# Altium footprint library Connector_PinSocket_2.00mm.PcbLib: 278 footprints (part 18 of 18)
Each footprint in its own frame and in the unit in brackets; x right, y up, seen from the top. Pads: shape width x height; smd on the part's side, far side on the other; paste and mask are expansions set on the pad; w line width, h text height; cw(c..) or ccw(c..) is an arc to the next point about the centre after c.
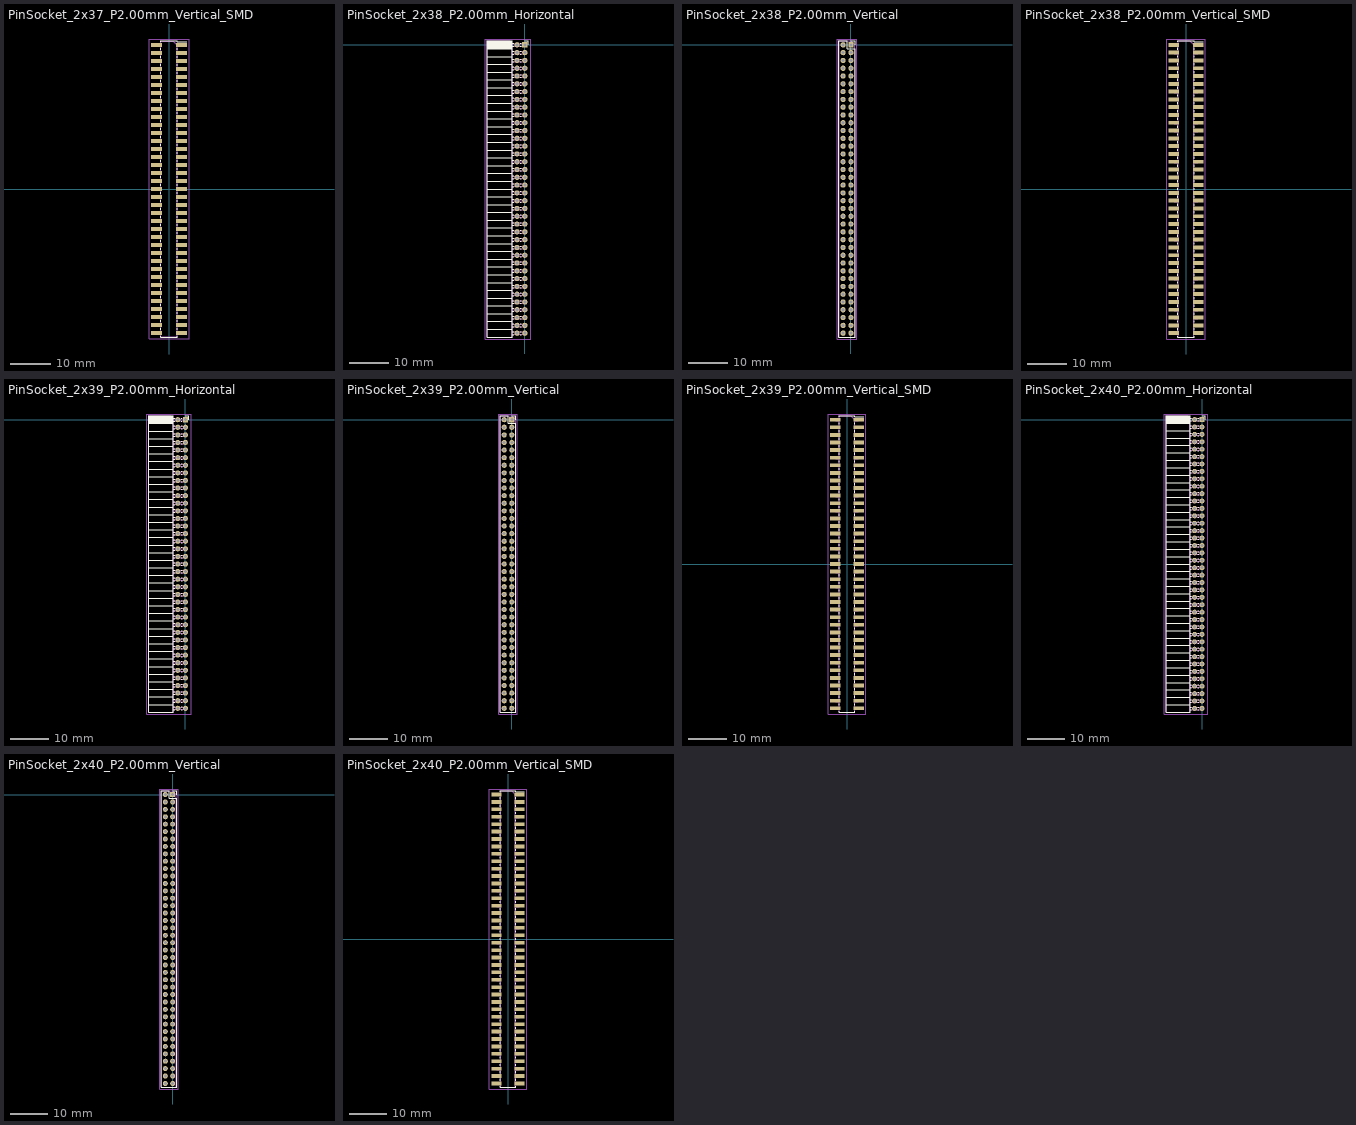
[diagram p17: the footprints below, top view; thin cyan lines are the x and y axes]

## PinSocket_2x37_P2.00mm_Vertical_SMD [mm]
pads (74):
  rect 2.75x1 smd: 1(3.125,36) 2(-3.125,36) 3(3.125,34) 4(-3.125,34) 5(3.125,32) 6(-3.125,32) 7(3.125,30) 8(-3.125,30) 9(3.125,28) 10(-3.125,28) 11(3.125,26) 12(-3.125,26) 13(3.125,24) 14(-3.125,24) 15(3.125,22) 16(-3.125,22) 17(3.125,20) 18(-3.125,20) 19(3.125,18) 20(-3.125,18) 21(3.125,16) 22(-3.125,16) 23(3.125,14) 24(-3.125,14) 25(3.125,12) 26(-3.125,12) 27(3.125,10) 28(-3.125,10) 29(3.125,8) 30(-3.125,8) 31(3.125,6) 32(-3.125,6) 33(3.125,4) 34(-3.125,4) 35(3.125,2) 36(-3.125,2) 37(3.125,0) 38(-3.125,0) 39(3.125,-2) 40(-3.125,-2) 41(3.125,-4) 42(-3.125,-4) 43(3.125,-6) 44(-3.125,-6) 45(3.125,-8) 46(-3.125,-8) 47(3.125,-10) 48(-3.125,-10) 49(3.125,-12) 50(-3.125,-12) 51(3.125,-14) 52(-3.125,-14) 53(3.125,-16) 54(-3.125,-16) 55(3.125,-18) 56(-3.125,-18) 57(3.125,-20) 58(-3.125,-20) 59(3.125,-22) 60(-3.125,-22) 61(3.125,-24) 62(-3.125,-24) 63(3.125,-26) 64(-3.125,-26) 65(3.125,-28) 66(-3.125,-28) 67(3.125,-30) 68(-3.125,-30) 69(3.125,-32) 70(-3.125,-32) 71(3.125,-34) 72(-3.125,-34) 73(3.125,-36) 74(-3.125,-36)
F.SilkS:
  lines w0.254: -2.06,-36.76 -2.06,-37.06 2.06,-37.06 2.06,-36.76 ; -2.06,-35.24 -2.06,-34.76 ; -2.06,-33.24 -2.06,-32.76 ; -2.06,-31.24 -2.06,-30.76 ; -2.06,-29.24 -2.06,-28.76 ; -2.06,-27.24 -2.06,-26.76 ; -2.06,-25.24 -2.06,-24.76 ; -2.06,-23.24 -2.06,-22.76 ; -2.06,-21.24 -2.06,-20.76 ; -2.06,-19.24 -2.06,-18.76 ; -2.06,-17.24 -2.06,-16.76 ; -2.06,-15.24 -2.06,-14.76 ; -2.06,-13.24 -2.06,-12.76 ; -2.06,-11.24 -2.06,-10.76 ; -2.06,-9.24 -2.06,-8.76 ; -2.06,-7.24 -2.06,-6.76 ; -2.06,-5.24 -2.06,-4.76 ; -2.06,-3.24 -2.06,-2.76 ; -2.06,-1.24 -2.06,-0.76 ; -2.06,0.76 -2.06,1.24 ; -2.06,2.76 -2.06,3.24 ; -2.06,4.76 -2.06,5.24 ; -2.06,6.76 -2.06,7.24 ; -2.06,8.76 -2.06,9.24 ; -2.06,10.76 -2.06,11.24 ; -2.06,12.76 -2.06,13.24 ; -2.06,14.76 -2.06,15.24 ; -2.06,16.76 -2.06,17.24 ; -2.06,18.76 -2.06,19.24 ; -2.06,20.76 -2.06,21.24 ; -2.06,22.76 -2.06,23.24 ; -2.06,24.76 -2.06,25.24 ; -2.06,26.76 -2.06,27.24 ; -2.06,28.76 -2.06,29.24 ; -2.06,30.76 -2.06,31.24 ; -2.06,32.76 -2.06,33.24 ; -2.06,34.76 -2.06,35.24 ; -2.06,36.76 -2.06,37.06 2.06,37.06 2.06,36.76 4.44,36.76 ; 2.06,-35.24 2.06,-34.76 ; 2.06,-33.24 2.06,-32.76 ; 2.06,-31.24 2.06,-30.76 ; 2.06,-29.24 2.06,-28.76 ; 2.06,-27.24 2.06,-26.76 ; 2.06,-25.24 2.06,-24.76 ; 2.06,-23.24 2.06,-22.76 ; 2.06,-21.24 2.06,-20.76 ; 2.06,-19.24 2.06,-18.76 ; 2.06,-17.24 2.06,-16.76 ; 2.06,-15.24 2.06,-14.76 ; 2.06,-13.24 2.06,-12.76 ; 2.06,-11.24 2.06,-10.76 ; 2.06,-9.24 2.06,-8.76 ; 2.06,-7.24 2.06,-6.76 ; 2.06,-5.24 2.06,-4.76 ; 2.06,-3.24 2.06,-2.76 ; 2.06,-1.24 2.06,-0.76 ; 2.06,0.76 2.06,1.24 ; 2.06,2.76 2.06,3.24 ; 2.06,4.76 2.06,5.24 ; 2.06,6.76 2.06,7.24 ; 2.06,8.76 2.06,9.24 ; 2.06,10.76 2.06,11.24 ; 2.06,12.76 2.06,13.24 ; 2.06,14.76 2.06,15.24 ; 2.06,16.76 2.06,17.24 ; 2.06,18.76 2.06,19.24 ; 2.06,20.76 2.06,21.24 ; 2.06,22.76 2.06,23.24 ; 2.06,24.76 2.06,25.24 ; 2.06,26.76 2.06,27.24 ; 2.06,28.76 2.06,29.24 ; 2.06,30.76 2.06,31.24 ; 2.06,32.76 2.06,33.24 ; 2.06,34.76 2.06,35.24
Top Assembly:
  drawing of 227 lines, arcs and shapes, not listed
  text "'.Designator'" at 0.84,-4.047 h1
Top Courtyard:
  lines w0.254: -5,-37.5 5,-37.5 5,37.5 -5,37.5 -5,-37.5
Top Designator:
  text ".Designator" at -7.618,-0.508 h1.52

## PinSocket_2x38_P2.00mm_Horizontal [mm]
pads (76):
  rect 1.35x1.35 hole 0.8: 1(0,0)
  round 1.35 hole 0.8: 2(-2,0) 3(0,-2) 4(-2,-2) 5(0,-4) 6(-2,-4) 7(0,-6) 8(-2,-6) 9(0,-8) 10(-2,-8) 11(0,-10) 12(-2,-10) 13(0,-12) 14(-2,-12) 15(0,-14) 16(-2,-14) 17(0,-16) 18(-2,-16) 19(0,-18) 20(-2,-18) 21(0,-20) 22(-2,-20) 23(0,-22) 24(-2,-22) 25(0,-24) 26(-2,-24) 27(0,-26) 28(-2,-26) 29(0,-28) 30(-2,-28) 31(0,-30) 32(-2,-30) 33(0,-32) 34(-2,-32) 35(0,-34) 36(-2,-34) 37(0,-36) 38(-2,-36) 39(0,-38) 40(-2,-38) 41(0,-40) 42(-2,-40) 43(0,-42) 44(-2,-42) 45(0,-44) 46(-2,-44) 47(0,-46) 48(-2,-46) 49(0,-48) 50(-2,-48) 51(0,-50) 52(-2,-50) 53(0,-52) 54(-2,-52) 55(0,-54) 56(-2,-54) 57(0,-56) 58(-2,-56) 59(0,-58) 60(-2,-58) 61(0,-60) 62(-2,-60) 63(0,-62) 64(-2,-62) 65(0,-64) 66(-2,-64) 67(0,-66) 68(-2,-66) 69(0,-68) 70(-2,-68) 71(0,-70) 72(-2,-70) 73(0,-72) 74(-2,-72) 75(0,-74) 76(-2,-74)
F.SilkS:
  drawing of 212 lines, arcs and shapes, not listed
Top Assembly:
  lines w0.254: -3.27,-74.3 0,-74.3 0,-73.7 -3.27,-73.7 ; -3.27,-72.3 0,-72.3 0,-71.7 -3.27,-71.7 ; -3.27,-70.3 0,-70.3 0,-69.7 -3.27,-69.7 ; -3.27,-68.3 0,-68.3 0,-67.7 -3.27,-67.7 ; -3.27,-66.3 0,-66.3 0,-65.7 -3.27,-65.7 ; -3.27,-64.3 0,-64.3 0,-63.7 -3.27,-63.7 ; -3.27,-62.3 0,-62.3 0,-61.7 -3.27,-61.7 ; -3.27,-60.3 0,-60.3 0,-59.7 -3.27,-59.7 ; -3.27,-58.3 0,-58.3 0,-57.7 -3.27,-57.7 ; -3.27,-56.3 0,-56.3 0,-55.7 -3.27,-55.7 ; -3.27,-54.3 0,-54.3 0,-53.7 -3.27,-53.7 ; -3.27,-52.3 0,-52.3 0,-51.7 -3.27,-51.7 ; -3.27,-50.3 0,-50.3 0,-49.7 -3.27,-49.7 ; -3.27,-48.3 0,-48.3 0,-47.7 -3.27,-47.7 ; -3.27,-46.3 0,-46.3 0,-45.7 -3.27,-45.7 ; -3.27,-44.3 0,-44.3 0,-43.7 -3.27,-43.7 ; -3.27,-42.3 0,-42.3 0,-41.7 -3.27,-41.7 ; -3.27,-40.3 0,-40.3 0,-39.7 -3.27,-39.7 ; -3.27,-38.3 0,-38.3 0,-37.7 -3.27,-37.7 ; -3.27,-36.3 0,-36.3 0,-35.7 -3.27,-35.7 ; -3.27,-34.3 0,-34.3 0,-33.7 -3.27,-33.7 ; -3.27,-32.3 0,-32.3 0,-31.7 -3.27,-31.7 ; -3.27,-30.3 0,-30.3 0,-29.7 -3.27,-29.7 ; -3.27,-28.3 0,-28.3 0,-27.7 -3.27,-27.7 ; -3.27,-26.3 0,-26.3 0,-25.7 -3.27,-25.7 ; -3.27,-24.3 0,-24.3 0,-23.7 -3.27,-23.7 ; -3.27,-22.3 0,-22.3 0,-21.7 -3.27,-21.7 ; -3.27,-20.3 0,-20.3 0,-19.7 -3.27,-19.7 ; -3.27,-18.3 0,-18.3 0,-17.7 -3.27,-17.7 ; -3.27,-16.3 0,-16.3 0,-15.7 -3.27,-15.7 ; -3.27,-14.3 0,-14.3 0,-13.7 -3.27,-13.7 ; -3.27,-12.3 0,-12.3 0,-11.7 -3.27,-11.7 ; -3.27,-10.3 0,-10.3 0,-9.7 -3.27,-9.7 ; -3.27,-8.3 0,-8.3 0,-7.7 -3.27,-7.7 ; -3.27,-6.3 0,-6.3 0,-5.7 -3.27,-5.7 ; -3.27,-4.3 0,-4.3 0,-3.7 -3.27,-3.7 ; -3.27,-2.3 0,-2.3 0,-1.7 -3.27,-1.7 ; -3.27,-0.3 0,-0.3 0,0.3 -3.27,0.3 ; -3.27,0.3 -3.27,-75 -9.62,-75 -9.62,1 -3.97,1 -3.27,0.3
  text "'.Designator'" at -5.605,-41.047 h1
Top Courtyard:
  lines w0.254: -10.15,-75.5 1.5,-75.5 1.5,1.5 -10.15,1.5 -10.15,-75.5
Top Designator:
  text ".Designator" at -11.943,-37.508 h1.52

## PinSocket_2x38_P2.00mm_Vertical [mm]
pads (76):
  rect 1.35x1.35 hole 0.8: 1(0,0)
  round 1.35 hole 0.8: 2(-2,0) 3(0,-2) 4(-2,-2) 5(0,-4) 6(-2,-4) 7(0,-6) 8(-2,-6) 9(0,-8) 10(-2,-8) 11(0,-10) 12(-2,-10) 13(0,-12) 14(-2,-12) 15(0,-14) 16(-2,-14) 17(0,-16) 18(-2,-16) 19(0,-18) 20(-2,-18) 21(0,-20) 22(-2,-20) 23(0,-22) 24(-2,-22) 25(0,-24) 26(-2,-24) 27(0,-26) 28(-2,-26) 29(0,-28) 30(-2,-28) 31(0,-30) 32(-2,-30) 33(0,-32) 34(-2,-32) 35(0,-34) 36(-2,-34) 37(0,-36) 38(-2,-36) 39(0,-38) 40(-2,-38) 41(0,-40) 42(-2,-40) 43(0,-42) 44(-2,-42) 45(0,-44) 46(-2,-44) 47(0,-46) 48(-2,-46) 49(0,-48) 50(-2,-48) 51(0,-50) 52(-2,-50) 53(0,-52) 54(-2,-52) 55(0,-54) 56(-2,-54) 57(0,-56) 58(-2,-56) 59(0,-58) 60(-2,-58) 61(0,-60) 62(-2,-60) 63(0,-62) 64(-2,-62) 65(0,-64) 66(-2,-64) 67(0,-66) 68(-2,-66) 69(0,-68) 70(-2,-68) 71(0,-70) 72(-2,-70) 73(0,-72) 74(-2,-72) 75(0,-74) 76(-2,-74)
F.SilkS:
  lines w0.254: 0,1.06 1.06,1.06 1.06,0 ; -3.06,-75.06 1.06,-75.06 1.06,-1 -1,-1 -1,1.06 -3.06,1.06 -3.06,-75.06
Top Assembly:
  lines w0.254: -3,-75 1,-75 1,0 0,1 -3,1 -3,-75
  text "'.Designator'" at -0.16,-41.047 h1
Top Courtyard:
  lines w0.254: -3.5,-75.5 1.5,-75.5 1.5,1.5 -3.5,1.5 -3.5,-75.5
Top Designator:
  text ".Designator" at -8.618,-37.508 h1.52

## PinSocket_2x38_P2.00mm_Vertical_SMD [mm]
pads (76):
  rect 2.75x1 smd: 1(3.125,37) 2(-3.125,37) 3(3.125,35) 4(-3.125,35) 5(3.125,33) 6(-3.125,33) 7(3.125,31) 8(-3.125,31) 9(3.125,29) 10(-3.125,29) 11(3.125,27) 12(-3.125,27) 13(3.125,25) 14(-3.125,25) 15(3.125,23) 16(-3.125,23) 17(3.125,21) 18(-3.125,21) 19(3.125,19) 20(-3.125,19) 21(3.125,17) 22(-3.125,17) 23(3.125,15) 24(-3.125,15) 25(3.125,13) 26(-3.125,13) 27(3.125,11) 28(-3.125,11) 29(3.125,9) 30(-3.125,9) 31(3.125,7) 32(-3.125,7) 33(3.125,5) 34(-3.125,5) 35(3.125,3) 36(-3.125,3) 37(3.125,1) 38(-3.125,1) 39(3.125,-1) 40(-3.125,-1) 41(3.125,-3) 42(-3.125,-3) 43(3.125,-5) 44(-3.125,-5) 45(3.125,-7) 46(-3.125,-7) 47(3.125,-9) 48(-3.125,-9) 49(3.125,-11) 50(-3.125,-11) 51(3.125,-13) 52(-3.125,-13) 53(3.125,-15) 54(-3.125,-15) 55(3.125,-17) 56(-3.125,-17) 57(3.125,-19) 58(-3.125,-19) 59(3.125,-21) 60(-3.125,-21) 61(3.125,-23) 62(-3.125,-23) 63(3.125,-25) 64(-3.125,-25) 65(3.125,-27) 66(-3.125,-27) 67(3.125,-29) 68(-3.125,-29) 69(3.125,-31) 70(-3.125,-31) 71(3.125,-33) 72(-3.125,-33) 73(3.125,-35) 74(-3.125,-35) 75(3.125,-37) 76(-3.125,-37)
F.SilkS:
  lines w0.254: -2.06,-37.76 -2.06,-38.06 2.06,-38.06 2.06,-37.76 ; -2.06,-36.24 -2.06,-35.76 ; -2.06,-34.24 -2.06,-33.76 ; -2.06,-32.24 -2.06,-31.76 ; -2.06,-30.24 -2.06,-29.76 ; -2.06,-28.24 -2.06,-27.76 ; -2.06,-26.24 -2.06,-25.76 ; -2.06,-24.24 -2.06,-23.76 ; -2.06,-22.24 -2.06,-21.76 ; -2.06,-20.24 -2.06,-19.76 ; -2.06,-18.24 -2.06,-17.76 ; -2.06,-16.24 -2.06,-15.76 ; -2.06,-14.24 -2.06,-13.76 ; -2.06,-12.24 -2.06,-11.76 ; -2.06,-10.24 -2.06,-9.76 ; -2.06,-8.24 -2.06,-7.76 ; -2.06,-6.24 -2.06,-5.76 ; -2.06,-4.24 -2.06,-3.76 ; -2.06,-2.24 -2.06,-1.76 ; -2.06,-0.24 -2.06,0.24 ; -2.06,1.76 -2.06,2.24 ; -2.06,3.76 -2.06,4.24 ; -2.06,5.76 -2.06,6.24 ; -2.06,7.76 -2.06,8.24 ; -2.06,9.76 -2.06,10.24 ; -2.06,11.76 -2.06,12.24 ; -2.06,13.76 -2.06,14.24 ; -2.06,15.76 -2.06,16.24 ; -2.06,17.76 -2.06,18.24 ; -2.06,19.76 -2.06,20.24 ; -2.06,21.76 -2.06,22.24 ; -2.06,23.76 -2.06,24.24 ; -2.06,25.76 -2.06,26.24 ; -2.06,27.76 -2.06,28.24 ; -2.06,29.76 -2.06,30.24 ; -2.06,31.76 -2.06,32.24 ; -2.06,33.76 -2.06,34.24 ; -2.06,35.76 -2.06,36.24 ; -2.06,37.76 -2.06,38.06 2.06,38.06 2.06,37.76 4.44,37.76 ; 2.06,-36.24 2.06,-35.76 ; 2.06,-34.24 2.06,-33.76 ; 2.06,-32.24 2.06,-31.76 ; 2.06,-30.24 2.06,-29.76 ; 2.06,-28.24 2.06,-27.76 ; 2.06,-26.24 2.06,-25.76 ; 2.06,-24.24 2.06,-23.76 ; 2.06,-22.24 2.06,-21.76 ; 2.06,-20.24 2.06,-19.76 ; 2.06,-18.24 2.06,-17.76 ; 2.06,-16.24 2.06,-15.76 ; 2.06,-14.24 2.06,-13.76 ; 2.06,-12.24 2.06,-11.76 ; 2.06,-10.24 2.06,-9.76 ; 2.06,-8.24 2.06,-7.76 ; 2.06,-6.24 2.06,-5.76 ; 2.06,-4.24 2.06,-3.76 ; 2.06,-2.24 2.06,-1.76 ; 2.06,-0.24 2.06,0.24 ; 2.06,1.76 2.06,2.24 ; 2.06,3.76 2.06,4.24 ; 2.06,5.76 2.06,6.24 ; 2.06,7.76 2.06,8.24 ; 2.06,9.76 2.06,10.24 ; 2.06,11.76 2.06,12.24 ; 2.06,13.76 2.06,14.24 ; 2.06,15.76 2.06,16.24 ; 2.06,17.76 2.06,18.24 ; 2.06,19.76 2.06,20.24 ; 2.06,21.76 2.06,22.24 ; 2.06,23.76 2.06,24.24 ; 2.06,25.76 2.06,26.24 ; 2.06,27.76 2.06,28.24 ; 2.06,29.76 2.06,30.24 ; 2.06,31.76 2.06,32.24 ; 2.06,33.76 2.06,34.24 ; 2.06,35.76 2.06,36.24
Top Assembly:
  drawing of 233 lines, arcs and shapes, not listed
  text "'.Designator'" at 0.84,-4.047 h1
Top Courtyard:
  lines w0.254: -5,-38.5 5,-38.5 5,38.5 -5,38.5 -5,-38.5
Top Designator:
  text ".Designator" at -7.618,-0.508 h1.52

## PinSocket_2x39_P2.00mm_Horizontal [mm]
pads (78):
  rect 1.35x1.35 hole 0.8: 1(0,0)
  round 1.35 hole 0.8: 2(-2,0) 3(0,-2) 4(-2,-2) 5(0,-4) 6(-2,-4) 7(0,-6) 8(-2,-6) 9(0,-8) 10(-2,-8) 11(0,-10) 12(-2,-10) 13(0,-12) 14(-2,-12) 15(0,-14) 16(-2,-14) 17(0,-16) 18(-2,-16) 19(0,-18) 20(-2,-18) 21(0,-20) 22(-2,-20) 23(0,-22) 24(-2,-22) 25(0,-24) 26(-2,-24) 27(0,-26) 28(-2,-26) 29(0,-28) 30(-2,-28) 31(0,-30) 32(-2,-30) 33(0,-32) 34(-2,-32) 35(0,-34) 36(-2,-34) 37(0,-36) 38(-2,-36) 39(0,-38) 40(-2,-38) 41(0,-40) 42(-2,-40) 43(0,-42) 44(-2,-42) 45(0,-44) 46(-2,-44) 47(0,-46) 48(-2,-46) 49(0,-48) 50(-2,-48) 51(0,-50) 52(-2,-50) 53(0,-52) 54(-2,-52) 55(0,-54) 56(-2,-54) 57(0,-56) 58(-2,-56) 59(0,-58) 60(-2,-58) 61(0,-60) 62(-2,-60) 63(0,-62) 64(-2,-62) 65(0,-64) 66(-2,-64) 67(0,-66) 68(-2,-66) 69(0,-68) 70(-2,-68) 71(0,-70) 72(-2,-70) 73(0,-72) 74(-2,-72) 75(0,-74) 76(-2,-74) 77(0,-76) 78(-2,-76)
F.SilkS:
  drawing of 217 lines, arcs and shapes, not listed
Top Assembly:
  lines w0.254: -3.27,-76.3 0,-76.3 0,-75.7 -3.27,-75.7 ; -3.27,-74.3 0,-74.3 0,-73.7 -3.27,-73.7 ; -3.27,-72.3 0,-72.3 0,-71.7 -3.27,-71.7 ; -3.27,-70.3 0,-70.3 0,-69.7 -3.27,-69.7 ; -3.27,-68.3 0,-68.3 0,-67.7 -3.27,-67.7 ; -3.27,-66.3 0,-66.3 0,-65.7 -3.27,-65.7 ; -3.27,-64.3 0,-64.3 0,-63.7 -3.27,-63.7 ; -3.27,-62.3 0,-62.3 0,-61.7 -3.27,-61.7 ; -3.27,-60.3 0,-60.3 0,-59.7 -3.27,-59.7 ; -3.27,-58.3 0,-58.3 0,-57.7 -3.27,-57.7 ; -3.27,-56.3 0,-56.3 0,-55.7 -3.27,-55.7 ; -3.27,-54.3 0,-54.3 0,-53.7 -3.27,-53.7 ; -3.27,-52.3 0,-52.3 0,-51.7 -3.27,-51.7 ; -3.27,-50.3 0,-50.3 0,-49.7 -3.27,-49.7 ; -3.27,-48.3 0,-48.3 0,-47.7 -3.27,-47.7 ; -3.27,-46.3 0,-46.3 0,-45.7 -3.27,-45.7 ; -3.27,-44.3 0,-44.3 0,-43.7 -3.27,-43.7 ; -3.27,-42.3 0,-42.3 0,-41.7 -3.27,-41.7 ; -3.27,-40.3 0,-40.3 0,-39.7 -3.27,-39.7 ; -3.27,-38.3 0,-38.3 0,-37.7 -3.27,-37.7 ; -3.27,-36.3 0,-36.3 0,-35.7 -3.27,-35.7 ; -3.27,-34.3 0,-34.3 0,-33.7 -3.27,-33.7 ; -3.27,-32.3 0,-32.3 0,-31.7 -3.27,-31.7 ; -3.27,-30.3 0,-30.3 0,-29.7 -3.27,-29.7 ; -3.27,-28.3 0,-28.3 0,-27.7 -3.27,-27.7 ; -3.27,-26.3 0,-26.3 0,-25.7 -3.27,-25.7 ; -3.27,-24.3 0,-24.3 0,-23.7 -3.27,-23.7 ; -3.27,-22.3 0,-22.3 0,-21.7 -3.27,-21.7 ; -3.27,-20.3 0,-20.3 0,-19.7 -3.27,-19.7 ; -3.27,-18.3 0,-18.3 0,-17.7 -3.27,-17.7 ; -3.27,-16.3 0,-16.3 0,-15.7 -3.27,-15.7 ; -3.27,-14.3 0,-14.3 0,-13.7 -3.27,-13.7 ; -3.27,-12.3 0,-12.3 0,-11.7 -3.27,-11.7 ; -3.27,-10.3 0,-10.3 0,-9.7 -3.27,-9.7 ; -3.27,-8.3 0,-8.3 0,-7.7 -3.27,-7.7 ; -3.27,-6.3 0,-6.3 0,-5.7 -3.27,-5.7 ; -3.27,-4.3 0,-4.3 0,-3.7 -3.27,-3.7 ; -3.27,-2.3 0,-2.3 0,-1.7 -3.27,-1.7 ; -3.27,-0.3 0,-0.3 0,0.3 -3.27,0.3 ; -3.27,0.3 -3.27,-77 -9.62,-77 -9.62,1 -3.97,1 -3.27,0.3
  text "'.Designator'" at -5.605,-42.047 h1
Top Courtyard:
  lines w0.254: -10.15,-77.5 1.5,-77.5 1.5,1.5 -10.15,1.5 -10.15,-77.5
Top Designator:
  text ".Designator" at -11.943,-38.508 h1.52

## PinSocket_2x39_P2.00mm_Vertical [mm]
pads (78):
  rect 1.35x1.35 hole 0.8: 1(0,0)
  round 1.35 hole 0.8: 2(-2,0) 3(0,-2) 4(-2,-2) 5(0,-4) 6(-2,-4) 7(0,-6) 8(-2,-6) 9(0,-8) 10(-2,-8) 11(0,-10) 12(-2,-10) 13(0,-12) 14(-2,-12) 15(0,-14) 16(-2,-14) 17(0,-16) 18(-2,-16) 19(0,-18) 20(-2,-18) 21(0,-20) 22(-2,-20) 23(0,-22) 24(-2,-22) 25(0,-24) 26(-2,-24) 27(0,-26) 28(-2,-26) 29(0,-28) 30(-2,-28) 31(0,-30) 32(-2,-30) 33(0,-32) 34(-2,-32) 35(0,-34) 36(-2,-34) 37(0,-36) 38(-2,-36) 39(0,-38) 40(-2,-38) 41(0,-40) 42(-2,-40) 43(0,-42) 44(-2,-42) 45(0,-44) 46(-2,-44) 47(0,-46) 48(-2,-46) 49(0,-48) 50(-2,-48) 51(0,-50) 52(-2,-50) 53(0,-52) 54(-2,-52) 55(0,-54) 56(-2,-54) 57(0,-56) 58(-2,-56) 59(0,-58) 60(-2,-58) 61(0,-60) 62(-2,-60) 63(0,-62) 64(-2,-62) 65(0,-64) 66(-2,-64) 67(0,-66) 68(-2,-66) 69(0,-68) 70(-2,-68) 71(0,-70) 72(-2,-70) 73(0,-72) 74(-2,-72) 75(0,-74) 76(-2,-74) 77(0,-76) 78(-2,-76)
F.SilkS:
  lines w0.254: 0,1.06 1.06,1.06 1.06,0 ; -3.06,-77.06 1.06,-77.06 1.06,-1 -1,-1 -1,1.06 -3.06,1.06 -3.06,-77.06
Top Assembly:
  lines w0.254: -3,-77 1,-77 1,0 0,1 -3,1 -3,-77
  text "'.Designator'" at -0.16,-42.047 h1
Top Courtyard:
  lines w0.254: -3.5,-77.5 1.5,-77.5 1.5,1.5 -3.5,1.5 -3.5,-77.5
Top Designator:
  text ".Designator" at -8.618,-38.508 h1.52

## PinSocket_2x39_P2.00mm_Vertical_SMD [mm]
pads (78):
  rect 2.75x1 smd: 1(3.125,38) 2(-3.125,38) 3(3.125,36) 4(-3.125,36) 5(3.125,34) 6(-3.125,34) 7(3.125,32) 8(-3.125,32) 9(3.125,30) 10(-3.125,30) 11(3.125,28) 12(-3.125,28) 13(3.125,26) 14(-3.125,26) 15(3.125,24) 16(-3.125,24) 17(3.125,22) 18(-3.125,22) 19(3.125,20) 20(-3.125,20) 21(3.125,18) 22(-3.125,18) 23(3.125,16) 24(-3.125,16) 25(3.125,14) 26(-3.125,14) 27(3.125,12) 28(-3.125,12) 29(3.125,10) 30(-3.125,10) 31(3.125,8) 32(-3.125,8) 33(3.125,6) 34(-3.125,6) 35(3.125,4) 36(-3.125,4) 37(3.125,2) 38(-3.125,2) 39(3.125,0) 40(-3.125,0) 41(3.125,-2) 42(-3.125,-2) 43(3.125,-4) 44(-3.125,-4) 45(3.125,-6) 46(-3.125,-6) 47(3.125,-8) 48(-3.125,-8) 49(3.125,-10) 50(-3.125,-10) 51(3.125,-12) 52(-3.125,-12) 53(3.125,-14) 54(-3.125,-14) 55(3.125,-16) 56(-3.125,-16) 57(3.125,-18) 58(-3.125,-18) 59(3.125,-20) 60(-3.125,-20) 61(3.125,-22) 62(-3.125,-22) 63(3.125,-24) 64(-3.125,-24) 65(3.125,-26) 66(-3.125,-26) 67(3.125,-28) 68(-3.125,-28) 69(3.125,-30) 70(-3.125,-30) 71(3.125,-32) 72(-3.125,-32) 73(3.125,-34) 74(-3.125,-34) 75(3.125,-36) 76(-3.125,-36) 77(3.125,-38) 78(-3.125,-38)
F.SilkS:
  lines w0.254: -2.06,-38.76 -2.06,-39.06 2.06,-39.06 2.06,-38.76 ; -2.06,-37.24 -2.06,-36.76 ; -2.06,-35.24 -2.06,-34.76 ; -2.06,-33.24 -2.06,-32.76 ; -2.06,-31.24 -2.06,-30.76 ; -2.06,-29.24 -2.06,-28.76 ; -2.06,-27.24 -2.06,-26.76 ; -2.06,-25.24 -2.06,-24.76 ; -2.06,-23.24 -2.06,-22.76 ; -2.06,-21.24 -2.06,-20.76 ; -2.06,-19.24 -2.06,-18.76 ; -2.06,-17.24 -2.06,-16.76 ; -2.06,-15.24 -2.06,-14.76 ; -2.06,-13.24 -2.06,-12.76 ; -2.06,-11.24 -2.06,-10.76 ; -2.06,-9.24 -2.06,-8.76 ; -2.06,-7.24 -2.06,-6.76 ; -2.06,-5.24 -2.06,-4.76 ; -2.06,-3.24 -2.06,-2.76 ; -2.06,-1.24 -2.06,-0.76 ; -2.06,0.76 -2.06,1.24 ; -2.06,2.76 -2.06,3.24 ; -2.06,4.76 -2.06,5.24 ; -2.06,6.76 -2.06,7.24 ; -2.06,8.76 -2.06,9.24 ; -2.06,10.76 -2.06,11.24 ; -2.06,12.76 -2.06,13.24 ; -2.06,14.76 -2.06,15.24 ; -2.06,16.76 -2.06,17.24 ; -2.06,18.76 -2.06,19.24 ; -2.06,20.76 -2.06,21.24 ; -2.06,22.76 -2.06,23.24 ; -2.06,24.76 -2.06,25.24 ; -2.06,26.76 -2.06,27.24 ; -2.06,28.76 -2.06,29.24 ; -2.06,30.76 -2.06,31.24 ; -2.06,32.76 -2.06,33.24 ; -2.06,34.76 -2.06,35.24 ; -2.06,36.76 -2.06,37.24 ; -2.06,38.76 -2.06,39.06 2.06,39.06 2.06,38.76 4.44,38.76 ; 2.06,-37.24 2.06,-36.76 ; 2.06,-35.24 2.06,-34.76 ; 2.06,-33.24 2.06,-32.76 ; 2.06,-31.24 2.06,-30.76 ; 2.06,-29.24 2.06,-28.76 ; 2.06,-27.24 2.06,-26.76 ; 2.06,-25.24 2.06,-24.76 ; 2.06,-23.24 2.06,-22.76 ; 2.06,-21.24 2.06,-20.76 ; 2.06,-19.24 2.06,-18.76 ; 2.06,-17.24 2.06,-16.76 ; 2.06,-15.24 2.06,-14.76 ; 2.06,-13.24 2.06,-12.76 ; 2.06,-11.24 2.06,-10.76 ; 2.06,-9.24 2.06,-8.76 ; 2.06,-7.24 2.06,-6.76 ; 2.06,-5.24 2.06,-4.76 ; 2.06,-3.24 2.06,-2.76 ; 2.06,-1.24 2.06,-0.76 ; 2.06,0.76 2.06,1.24 ; 2.06,2.76 2.06,3.24 ; 2.06,4.76 2.06,5.24 ; 2.06,6.76 2.06,7.24 ; 2.06,8.76 2.06,9.24 ; 2.06,10.76 2.06,11.24 ; 2.06,12.76 2.06,13.24 ; 2.06,14.76 2.06,15.24 ; 2.06,16.76 2.06,17.24 ; 2.06,18.76 2.06,19.24 ; 2.06,20.76 2.06,21.24 ; 2.06,22.76 2.06,23.24 ; 2.06,24.76 2.06,25.24 ; 2.06,26.76 2.06,27.24 ; 2.06,28.76 2.06,29.24 ; 2.06,30.76 2.06,31.24 ; 2.06,32.76 2.06,33.24 ; 2.06,34.76 2.06,35.24 ; 2.06,36.76 2.06,37.24
Top Assembly:
  drawing of 239 lines, arcs and shapes, not listed
  text "'.Designator'" at 0.84,-4.047 h1
Top Courtyard:
  lines w0.254: -5,-39.5 5,-39.5 5,39.5 -5,39.5 -5,-39.5
Top Designator:
  text ".Designator" at -7.618,-0.508 h1.52

## PinSocket_2x40_P2.00mm_Horizontal [mm]
pads (80):
  rect 1.35x1.35 hole 0.8: 1(0,0)
  round 1.35 hole 0.8: 2(-2,0) 3(0,-2) 4(-2,-2) 5(0,-4) 6(-2,-4) 7(0,-6) 8(-2,-6) 9(0,-8) 10(-2,-8) 11(0,-10) 12(-2,-10) 13(0,-12) 14(-2,-12) 15(0,-14) 16(-2,-14) 17(0,-16) 18(-2,-16) 19(0,-18) 20(-2,-18) 21(0,-20) 22(-2,-20) 23(0,-22) 24(-2,-22) 25(0,-24) 26(-2,-24) 27(0,-26) 28(-2,-26) 29(0,-28) 30(-2,-28) 31(0,-30) 32(-2,-30) 33(0,-32) 34(-2,-32) 35(0,-34) 36(-2,-34) 37(0,-36) 38(-2,-36) 39(0,-38) 40(-2,-38) 41(0,-40) 42(-2,-40) 43(0,-42) 44(-2,-42) 45(0,-44) 46(-2,-44) 47(0,-46) 48(-2,-46) 49(0,-48) 50(-2,-48) 51(0,-50) 52(-2,-50) 53(0,-52) 54(-2,-52) 55(0,-54) 56(-2,-54) 57(0,-56) 58(-2,-56) 59(0,-58) 60(-2,-58) 61(0,-60) 62(-2,-60) 63(0,-62) 64(-2,-62) 65(0,-64) 66(-2,-64) 67(0,-66) 68(-2,-66) 69(0,-68) 70(-2,-68) 71(0,-70) 72(-2,-70) 73(0,-72) 74(-2,-72) 75(0,-74) 76(-2,-74) 77(0,-76) 78(-2,-76) 79(0,-78) 80(-2,-78)
F.SilkS:
  drawing of 222 lines, arcs and shapes, not listed
Top Assembly:
  lines w0.254: -3.27,-78.3 0,-78.3 0,-77.7 -3.27,-77.7 ; -3.27,-76.3 0,-76.3 0,-75.7 -3.27,-75.7 ; -3.27,-74.3 0,-74.3 0,-73.7 -3.27,-73.7 ; -3.27,-72.3 0,-72.3 0,-71.7 -3.27,-71.7 ; -3.27,-70.3 0,-70.3 0,-69.7 -3.27,-69.7 ; -3.27,-68.3 0,-68.3 0,-67.7 -3.27,-67.7 ; -3.27,-66.3 0,-66.3 0,-65.7 -3.27,-65.7 ; -3.27,-64.3 0,-64.3 0,-63.7 -3.27,-63.7 ; -3.27,-62.3 0,-62.3 0,-61.7 -3.27,-61.7 ; -3.27,-60.3 0,-60.3 0,-59.7 -3.27,-59.7 ; -3.27,-58.3 0,-58.3 0,-57.7 -3.27,-57.7 ; -3.27,-56.3 0,-56.3 0,-55.7 -3.27,-55.7 ; -3.27,-54.3 0,-54.3 0,-53.7 -3.27,-53.7 ; -3.27,-52.3 0,-52.3 0,-51.7 -3.27,-51.7 ; -3.27,-50.3 0,-50.3 0,-49.7 -3.27,-49.7 ; -3.27,-48.3 0,-48.3 0,-47.7 -3.27,-47.7 ; -3.27,-46.3 0,-46.3 0,-45.7 -3.27,-45.7 ; -3.27,-44.3 0,-44.3 0,-43.7 -3.27,-43.7 ; -3.27,-42.3 0,-42.3 0,-41.7 -3.27,-41.7 ; -3.27,-40.3 0,-40.3 0,-39.7 -3.27,-39.7 ; -3.27,-38.3 0,-38.3 0,-37.7 -3.27,-37.7 ; -3.27,-36.3 0,-36.3 0,-35.7 -3.27,-35.7 ; -3.27,-34.3 0,-34.3 0,-33.7 -3.27,-33.7 ; -3.27,-32.3 0,-32.3 0,-31.7 -3.27,-31.7 ; -3.27,-30.3 0,-30.3 0,-29.7 -3.27,-29.7 ; -3.27,-28.3 0,-28.3 0,-27.7 -3.27,-27.7 ; -3.27,-26.3 0,-26.3 0,-25.7 -3.27,-25.7 ; -3.27,-24.3 0,-24.3 0,-23.7 -3.27,-23.7 ; -3.27,-22.3 0,-22.3 0,-21.7 -3.27,-21.7 ; -3.27,-20.3 0,-20.3 0,-19.7 -3.27,-19.7 ; -3.27,-18.3 0,-18.3 0,-17.7 -3.27,-17.7 ; -3.27,-16.3 0,-16.3 0,-15.7 -3.27,-15.7 ; -3.27,-14.3 0,-14.3 0,-13.7 -3.27,-13.7 ; -3.27,-12.3 0,-12.3 0,-11.7 -3.27,-11.7 ; -3.27,-10.3 0,-10.3 0,-9.7 -3.27,-9.7 ; -3.27,-8.3 0,-8.3 0,-7.7 -3.27,-7.7 ; -3.27,-6.3 0,-6.3 0,-5.7 -3.27,-5.7 ; -3.27,-4.3 0,-4.3 0,-3.7 -3.27,-3.7 ; -3.27,-2.3 0,-2.3 0,-1.7 -3.27,-1.7 ; -3.27,-0.3 0,-0.3 0,0.3 -3.27,0.3 ; -3.27,0.3 -3.27,-79 -9.62,-79 -9.62,1 -3.97,1 -3.27,0.3
  text "'.Designator'" at -5.605,-43.047 h1
Top Courtyard:
  lines w0.254: -10.15,-79.5 1.5,-79.5 1.5,1.5 -10.15,1.5 -10.15,-79.5
Top Designator:
  text ".Designator" at -11.943,-39.508 h1.52

## PinSocket_2x40_P2.00mm_Vertical [mm]
pads (80):
  rect 1.35x1.35 hole 0.8: 1(0,0)
  round 1.35 hole 0.8: 2(-2,0) 3(0,-2) 4(-2,-2) 5(0,-4) 6(-2,-4) 7(0,-6) 8(-2,-6) 9(0,-8) 10(-2,-8) 11(0,-10) 12(-2,-10) 13(0,-12) 14(-2,-12) 15(0,-14) 16(-2,-14) 17(0,-16) 18(-2,-16) 19(0,-18) 20(-2,-18) 21(0,-20) 22(-2,-20) 23(0,-22) 24(-2,-22) 25(0,-24) 26(-2,-24) 27(0,-26) 28(-2,-26) 29(0,-28) 30(-2,-28) 31(0,-30) 32(-2,-30) 33(0,-32) 34(-2,-32) 35(0,-34) 36(-2,-34) 37(0,-36) 38(-2,-36) 39(0,-38) 40(-2,-38) 41(0,-40) 42(-2,-40) 43(0,-42) 44(-2,-42) 45(0,-44) 46(-2,-44) 47(0,-46) 48(-2,-46) 49(0,-48) 50(-2,-48) 51(0,-50) 52(-2,-50) 53(0,-52) 54(-2,-52) 55(0,-54) 56(-2,-54) 57(0,-56) 58(-2,-56) 59(0,-58) 60(-2,-58) 61(0,-60) 62(-2,-60) 63(0,-62) 64(-2,-62) 65(0,-64) 66(-2,-64) 67(0,-66) 68(-2,-66) 69(0,-68) 70(-2,-68) 71(0,-70) 72(-2,-70) 73(0,-72) 74(-2,-72) 75(0,-74) 76(-2,-74) 77(0,-76) 78(-2,-76) 79(0,-78) 80(-2,-78)
F.SilkS:
  lines w0.254: 0,1.06 1.06,1.06 1.06,0 ; -3.06,-79.06 -3.06,1.06 -1,1.06 -1,-1 1.06,-1 1.06,-79.06 -3.06,-79.06
Top Assembly:
  lines w0.254: -3,-79 -3,1 0,1 1,0 1,-79 -3,-79
  text "'.Designator'" at -0.16,-43.047 h1
Top Courtyard:
  lines w0.254: -3.5,-79.5 -3.5,1.5 1.5,1.5 1.5,-79.5 -3.5,-79.5
Top Designator:
  text ".Designator" at -8.618,-39.508 h1.52

## PinSocket_2x40_P2.00mm_Vertical_SMD [mm]
pads (80):
  rect 2.75x1 smd: 1(3.125,39) 2(-3.125,39) 3(3.125,37) 4(-3.125,37) 5(3.125,35) 6(-3.125,35) 7(3.125,33) 8(-3.125,33) 9(3.125,31) 10(-3.125,31) 11(3.125,29) 12(-3.125,29) 13(3.125,27) 14(-3.125,27) 15(3.125,25) 16(-3.125,25) 17(3.125,23) 18(-3.125,23) 19(3.125,21) 20(-3.125,21) 21(3.125,19) 22(-3.125,19) 23(3.125,17) 24(-3.125,17) 25(3.125,15) 26(-3.125,15) 27(3.125,13) 28(-3.125,13) 29(3.125,11) 30(-3.125,11) 31(3.125,9) 32(-3.125,9) 33(3.125,7) 34(-3.125,7) 35(3.125,5) 36(-3.125,5) 37(3.125,3) 38(-3.125,3) 39(3.125,1) 40(-3.125,1) 41(3.125,-1) 42(-3.125,-1) 43(3.125,-3) 44(-3.125,-3) 45(3.125,-5) 46(-3.125,-5) 47(3.125,-7) 48(-3.125,-7) 49(3.125,-9) 50(-3.125,-9) 51(3.125,-11) 52(-3.125,-11) 53(3.125,-13) 54(-3.125,-13) 55(3.125,-15) 56(-3.125,-15) 57(3.125,-17) 58(-3.125,-17) 59(3.125,-19) 60(-3.125,-19) 61(3.125,-21) 62(-3.125,-21) 63(3.125,-23) 64(-3.125,-23) 65(3.125,-25) 66(-3.125,-25) 67(3.125,-27) 68(-3.125,-27) 69(3.125,-29) 70(-3.125,-29) 71(3.125,-31) 72(-3.125,-31) 73(3.125,-33) 74(-3.125,-33) 75(3.125,-35) 76(-3.125,-35) 77(3.125,-37) 78(-3.125,-37) 79(3.125,-39) 80(-3.125,-39)
F.SilkS:
  lines w0.254: -2.06,-39.76 -2.06,-40.06 2.06,-40.06 2.06,-39.76 ; -2.06,-38.24 -2.06,-37.76 ; -2.06,-36.24 -2.06,-35.76 ; -2.06,-34.24 -2.06,-33.76 ; -2.06,-32.24 -2.06,-31.76 ; -2.06,-30.24 -2.06,-29.76 ; -2.06,-28.24 -2.06,-27.76 ; -2.06,-26.24 -2.06,-25.76 ; -2.06,-24.24 -2.06,-23.76 ; -2.06,-22.24 -2.06,-21.76 ; -2.06,-20.24 -2.06,-19.76 ; -2.06,-18.24 -2.06,-17.76 ; -2.06,-16.24 -2.06,-15.76 ; -2.06,-14.24 -2.06,-13.76 ; -2.06,-12.24 -2.06,-11.76 ; -2.06,-10.24 -2.06,-9.76 ; -2.06,-8.24 -2.06,-7.76 ; -2.06,-6.24 -2.06,-5.76 ; -2.06,-4.24 -2.06,-3.76 ; -2.06,-2.24 -2.06,-1.76 ; -2.06,-0.24 -2.06,0.24 ; -2.06,1.76 -2.06,2.24 ; -2.06,3.76 -2.06,4.24 ; -2.06,5.76 -2.06,6.24 ; -2.06,7.76 -2.06,8.24 ; -2.06,9.76 -2.06,10.24 ; -2.06,11.76 -2.06,12.24 ; -2.06,13.76 -2.06,14.24 ; -2.06,15.76 -2.06,16.24 ; -2.06,17.76 -2.06,18.24 ; -2.06,19.76 -2.06,20.24 ; -2.06,21.76 -2.06,22.24 ; -2.06,23.76 -2.06,24.24 ; -2.06,25.76 -2.06,26.24 ; -2.06,27.76 -2.06,28.24 ; -2.06,29.76 -2.06,30.24 ; -2.06,31.76 -2.06,32.24 ; -2.06,33.76 -2.06,34.24 ; -2.06,35.76 -2.06,36.24 ; -2.06,37.76 -2.06,38.24 ; -2.06,39.76 -2.06,40.06 2.06,40.06 2.06,39.76 4.44,39.76 ; 2.06,-38.24 2.06,-37.76 ; 2.06,-36.24 2.06,-35.76 ; 2.06,-34.24 2.06,-33.76 ; 2.06,-32.24 2.06,-31.76 ; 2.06,-30.24 2.06,-29.76 ; 2.06,-28.24 2.06,-27.76 ; 2.06,-26.24 2.06,-25.76 ; 2.06,-24.24 2.06,-23.76 ; 2.06,-22.24 2.06,-21.76 ; 2.06,-20.24 2.06,-19.76 ; 2.06,-18.24 2.06,-17.76 ; 2.06,-16.24 2.06,-15.76 ; 2.06,-14.24 2.06,-13.76 ; 2.06,-12.24 2.06,-11.76 ; 2.06,-10.24 2.06,-9.76 ; 2.06,-8.24 2.06,-7.76 ; 2.06,-6.24 2.06,-5.76 ; 2.06,-4.24 2.06,-3.76 ; 2.06,-2.24 2.06,-1.76 ; 2.06,-0.24 2.06,0.24 ; 2.06,1.76 2.06,2.24 ; 2.06,3.76 2.06,4.24 ; 2.06,5.76 2.06,6.24 ; 2.06,7.76 2.06,8.24 ; 2.06,9.76 2.06,10.24 ; 2.06,11.76 2.06,12.24 ; 2.06,13.76 2.06,14.24 ; 2.06,15.76 2.06,16.24 ; 2.06,17.76 2.06,18.24 ; 2.06,19.76 2.06,20.24 ; 2.06,21.76 2.06,22.24 ; 2.06,23.76 2.06,24.24 ; 2.06,25.76 2.06,26.24 ; 2.06,27.76 2.06,28.24 ; 2.06,29.76 2.06,30.24 ; 2.06,31.76 2.06,32.24 ; 2.06,33.76 2.06,34.24 ; 2.06,35.76 2.06,36.24 ; 2.06,37.76 2.06,38.24
Top Assembly:
  drawing of 245 lines, arcs and shapes, not listed
  text "'.Designator'" at 0.84,-4.047 h1
Top Courtyard:
  lines w0.254: -5,-40.5 5,-40.5 5,40.5 -5,40.5 -5,-40.5
Top Designator:
  text ".Designator" at -7.618,-0.508 h1.52